# EAGLE library part HEF4051B (library master_library)
HEF4051B, 8-channel analog multiplexer/demultiplexer, https://assets.nexperia.com/documents/data-sheet/HEF4051B.pdf
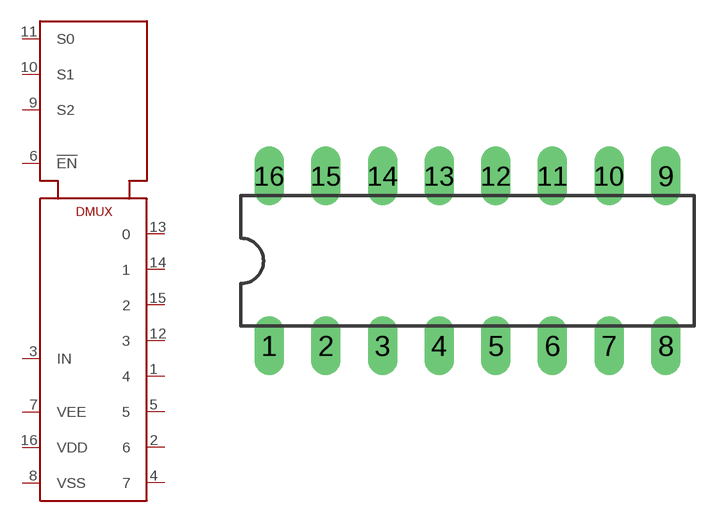
[diagram p0: symbol with the pads of DIL16; footprint DIL16]

Designator prefix -

## HEF4051B  [DIL16]
1  4  out
2  6  out
3  IN  in
4  7
5  5  out
6  !EN  in
7  VEE  pwr
8  VSS  pwr
9  S2  in
10  S1  in
11  S0  in
12  3  out
13  0  out
14  1  out
15  2  out
16  VDD  pwr

## Footprint DIL16 (pad centres in mm)
Dual In Line Package
drill 0.813 long: 1 -8.89,-3.81; 2 -6.35,-3.81; 3 -3.81,-3.81; 4 -1.27,-3.81; 5 1.27,-3.81; 6 3.81,-3.81; 7 6.35,-3.81; 8 8.89,-3.81; 9 8.89,3.81; 10 6.35,3.81; 11 3.81,3.81; 12 1.27,3.81; 13 -1.27,3.81; 14 -3.81,3.81; 15 -6.35,3.81; 16 -8.89,3.81